# Altium schematic symbol library ceramic capcitor.SchLib: 1 symbol
Pins are listed as number, name and electrical type; pins without a type are passive.

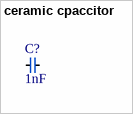
[diagram p0: symbol ceramic cpaccitor]

## ceramic cpaccitor
designator C?, comment 1nF
footprint ceramic capacitor
pins: 1, 2